# Altium schematic symbol library Screen test.SCHLIB: 5 symbols
Pins are listed as number, name and electrical type; pins without a type are passive.

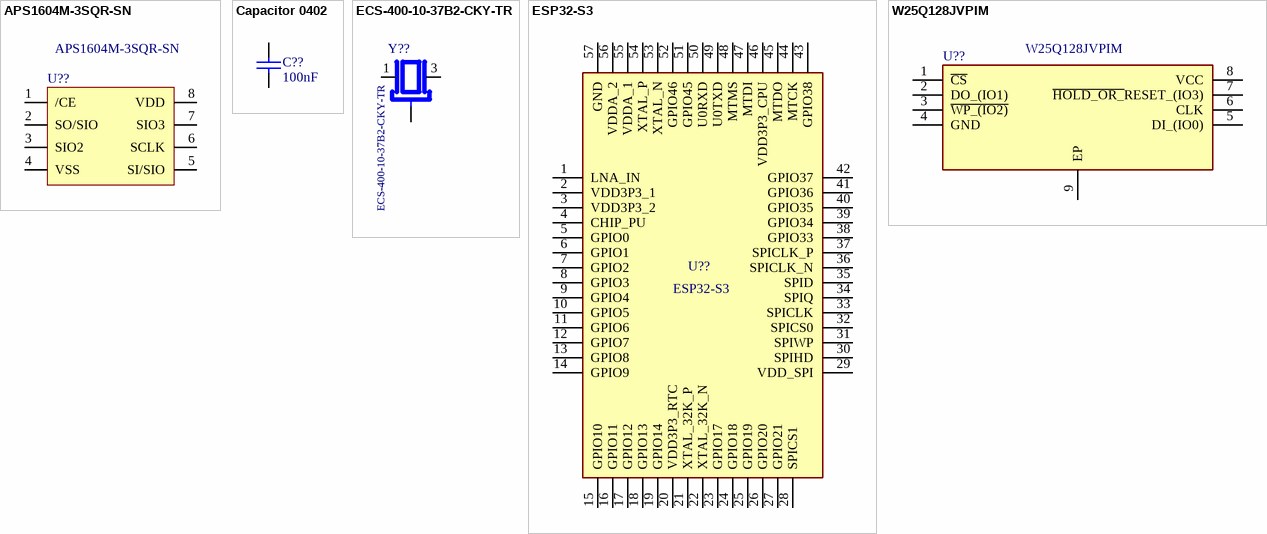
[diagram p0: symbols APS1604M-3SQR-SN to W25Q128JVPIM]

## APS1604M-3SQR-SN
designator U??
DRAM IoT RAM 16Mb QSPI (x1,x4) SDR 133/84MHz, RBX, 3V, Ind. Temp., SOP8
footprint SOIC127P600X165-8N
pins: 1 /CE, 2 SO/SIO, 3 SIO2, 4 VSS, 5 SI/SIO, 6 SCLK, 7 SIO3, 8 VDD

## Capacitor 0402
designator C??, comment 100nF
Capacitor Ceramico SMD 0402
footprint Capacitor 0402
pins: 1, 2

## ECS-400-10-37B2-CKY-TR
designator Y??
Package: None; Price: None; Value: *; MP: ECS-400-10-37B2-CKY-TR; Availability: Unavailable
footprint XTAL_ECS-400-10-37B2-CKY-TR
pins: 1 IN/OUT, 2 GND (power), 3 OUT/IN, 4 GND (power)

## ESP32-S3
designator U??
WiFi Modules - 802.11 [ENGINEERING SAMPLES]SMD IC, Dual-Core MCU, Wi-Fi 2.4G & BLE 5.0 Combo; Manufacturer_Name: Espressif Systems; Geometry.Height: 0.9mm; Mouser Part Number: 356-ESP32-S3; Mouser Price/Stock: https://www.mouser.co.uk/ProductDetail/Espressif-Systems/ESP32-S3?qs=Rp5uXu7WBW%2FNWuUy%252BBihNw%3D%3D; Manufacturer_Part_Number: ESP32-S3; Datasheet Link: *
footprint QFN40P700X700X90-57N-D
pins: 1 LNA_IN, 2 VDD3P3_1, 3 VDD3P3_2, 4 CHIP_PU, 5 GPIO0, 6 GPIO1, 7 GPIO2, 8 GPIO3, 9 GPIO4, 10 GPIO5, 11 GPIO6, 12 GPIO7, 13 GPIO8, 14 GPIO9, 15 GPIO10, 16 GPIO11, 17 GPIO12, 18 GPIO13, 19 GPIO14, 20 VDD3P3_RTC, 21 XTAL_32K_P, 22 XTAL_32K_N, 23 GPIO17, 24 GPIO18, 25 GPIO19, 26 GPIO20, 27 GPIO21, 28 SPICS1, 29 VDD_SPI, 30 SPIHD, 31 SPIWP, 32 SPICS0, 33 SPICLK, 34 SPIQ, 35 SPID, 36 SPICLK_N, 37 SPICLK_P, 38 GPIO33, 39 GPIO34, 40 GPIO35, 41 GPIO36, 42 GPIO37, 43 GPIO38, 44 MTCK, 45 MTDO, 46 VDD3P3_CPU, 47 MTDI, 48 MTMS, 49 U0TXD, 50 U0RXD, 51 GPIO45, 52 GPIO46, 53 XTAL_N, 54 XTAL_P, 55 VDDA_1, 56 VDDA_2, 57 GND

## W25Q128JVPIM
designator U??
128M-bit Serial Flash Memory with uniform 4KB sectors and Dual/Quad SPI; Manufacturer_Name: Winbond; Geometry.Height: 0.8mm; Mouser Part Number: 454-W25Q128JVPIM; Mouser Price/Stock: https://www.mouser.co.uk/ProductDetail/Winbond/W25Q128JVPIM?qs=qSfuJ%252Bfl%2Fd62hi5N%252Bd7%252B%252BA%3D%3D; Manufacturer_Part_Number: W25Q128JVPIM; Datasheet Link: https://www.winbond.com/hq/search-resource-file.jsp?partNo=W25Q128JVPIM&type=datasheet
footprint SON127P600X500X80-9N-D
pins: 1 ~{CS}, 2 DO_(IO1), 3 ~{WP_(IO2)}, 4 GND, 5 DI_(IO0), 6 CLK, 7 ~{HOLD_OR_}RESET_(IO3), 8 VCC, 9 EP